# Altium schematic symbol library MTSW-112-09-T-S-124-RE.SchLib: 1 symbol
Pins are listed as number, name and electrical type; pins without a type are passive.

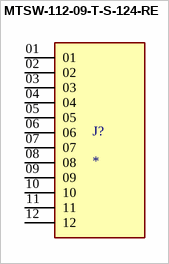
[diagram p0: symbol MTSW-112-09-T-S-124-RE]

## MTSW-112-09-T-S-124-RE
designator J?
Connector Header Through Hole, Right Angle 12 position 0.100 (2.54mm); MF: Samtec; MP: MTSW-112-09-T-S-124-RE; SnapEDA_Link: https://www.snapeda.com/parts/MTSW-112-09-T-S-124-RE/Samtec/view-part/?ref=snap; Package: None; Value: *; Check_prices: https://www.snapeda.com/parts/MTSW-112-09-T-S-124-RE/Samtec/view-part/?ref=eda
footprint SAMTEC_MTSW-112-09-T-S-124-RE
pins: 01, 02, 03, 04, 05, 06, 07, 08, 09, 10, 11, 12